# EAGLE library part S-8261 (library BeagleBone_Blue_R3)
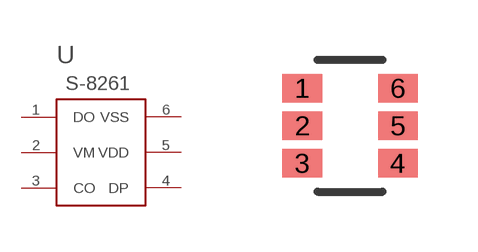
[diagram p19: symbol with the pads of SOT-236; footprint SOT-236]

Designator prefix -

## S-8261  [SOT-236]
1  DO
2  VM
3  CO
4  DP
5  VDD
6  VSS

## Footprint SOT-236 (pad centres in mm)
smd 0.991 x 0.711: 1 -1.194,0.94; 2 -1.194,0; 3 -1.194,-0.94; 4 1.194,-0.94; 5 1.194,0; 6 1.194,0.94